# Altium schematic symbol library ESP32-C6-WROOM-1U.SCHLIB: 1 symbol
Pins are listed as number, name and electrical type; pins without a type are passive.

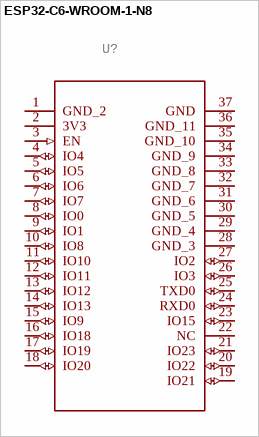
[diagram p0: symbol ESP32-C6-WROOM-1-N8]

## ESP32-C6-WROOM-1-N8
designator U?
MFR_NAME: Espressif Systems; GateName_1: A; SymbolName_1: ESP32-C6-WROOM-1(U); DeviceSetName: ESP32-C6-WROOM-1-N8; LibraryName: ESP32-C6-WROOM-1U; Package: MOD28_ESP32-C6-WROOM-1_EXP; COPYRIGHT: Copyright (C) 2023 Ultra Librarian. All rights reserved.; MANUFACTURER_PART_NUMBER: ESP32-C6-WROOM-1-N8; TYPE: RF
footprint MOD28_ESP32-C6-WROOM-1_EXP
pins: 1 GND_2, 2 3V3 (power), 3 EN (in), 4 IO4 (io), 5 IO5 (io), 6 IO6 (io), 7 IO7 (io), 8 IO0 (io), 9 IO1 (io), 10 IO8 (io), 11 IO10 (io), 12 IO11 (io), 13 IO12 (io), 14 IO13 (io), 15 IO9 (io), 16 IO18 (io), 17 IO19 (io), 18 IO20 (io), 19 IO21 (io), 20 IO22 (io), 21 IO23 (io), 22 NC, 23 IO15 (io), 24 RXD0 (io), 25 TXD0 (io), 26 IO3 (io), 27 IO2 (io), 28 GND_3, 29 GND_4, 30 GND_5, 31 GND_6, 32 GND_7, 33 GND_8, 34 GND_9, 35 GND_10, 36 GND_11, 37 GND